# Altium footprint library SG__PCB_Unsorted.PcbLib: 113 footprints (part 2 of 8)
Each footprint in its own frame and in the unit in brackets; x right, y up, seen from the top. Pads: shape width x height; smd on the part's side, far side on the other; paste and mask are expansions set on the pad; w line width, h text height; cw(c..) or ccw(c..) is an arc to the next point about the centre after c.
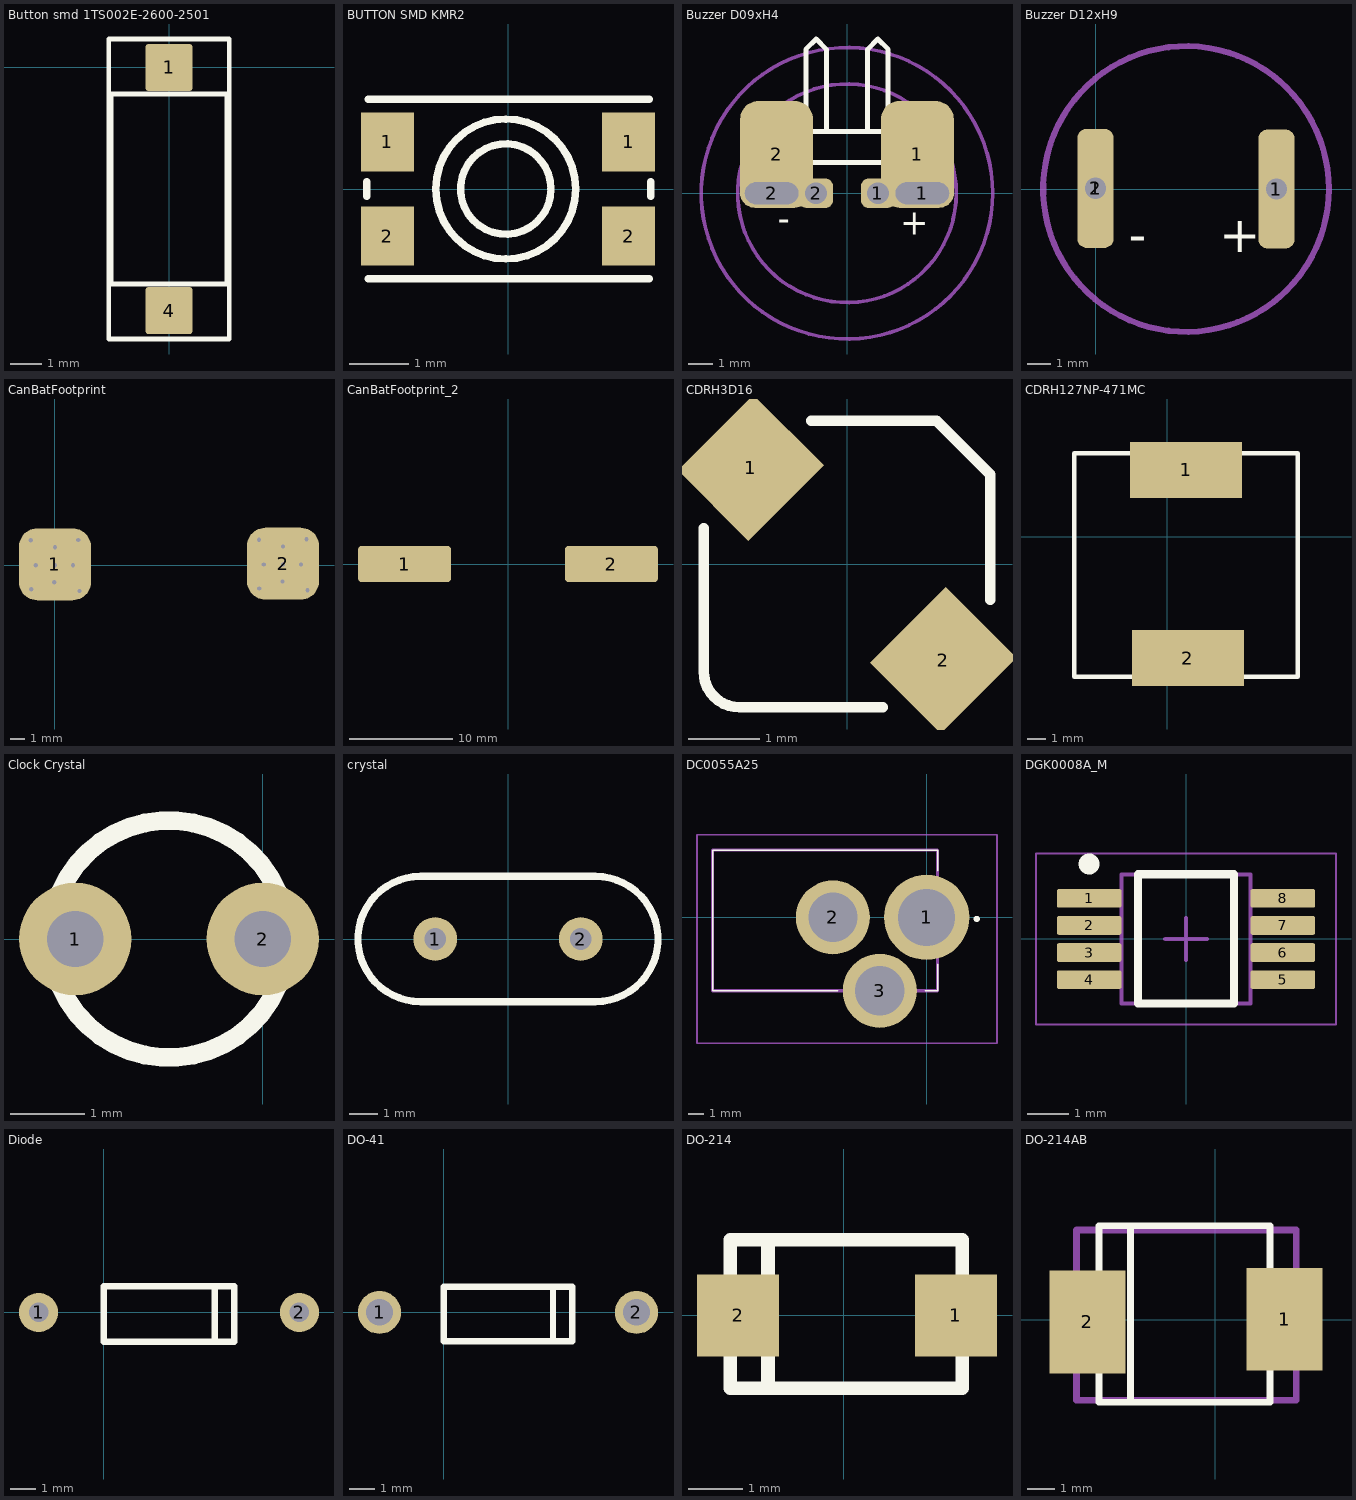
[diagram p1: the footprints below, top view; thin cyan lines are the x and y axes]

## Button smd 1TS002E-2600-2501 [mm] "C319370"
height 2.5
pads (2):
  rrect10% 1.5x1.5 smd: 1(0,0) 4(0,-7.8)
Top Overlay:
  lines w0.152: -1.93,-8.712 1.93,-8.712 1.93,-0.533 1.93,0.914 -0.762,0.914 -1.93,0.914 -1.93,-2.083 -1.93,-8.712 ; -1.85,-6.95 -1.85,-0.85 1.85,-0.85 1.85,-6.95 -1.85,-6.95
3D body: height 2, standoff 0, extent -1.85,-6.95 1.85,-0.85

## BUTTON SMD KMR2 [mm] "C72443"
height 1.9
pads (4):
  rect 0.9x1 smd: 1(-2.05,0.8) 1(2.05,0.8) 2(-2.05,-0.8) 2(2.05,-0.8)
Top Overlay:
  circle w0.127: c-0.038,0 r1.19
  circle w0.127: c-0.038,0 r0.769
  lines w0.127: -2.4,-0.125 -2.4,0.125 ; -2.375,-1.525 2.4,-1.525 ; -2.375,1.525 2.4,1.525 ; 2.425,-0.125 2.425,0.125
3D body: height 2.52, standoff 1.79, extent -0.98,-0.923 0.912,0.974
3D body: height 1.79, standoff 0, extent -2.413,-1.524 2.413,1.524

## Buzzer D09xH4 [mm] "Зуммер"
height 9
pads (6):
  rrect50% 1.4x1.2 hole 0.9: 1(1.27,0) 2(-1.27,0)
  rrect50% 3x4.4 smd: 1(2.9,1.6) 2(-2.9,1.6)
  oval 2.6x1.2 hole 0.9 slot 2.2 at 0 deg: 1(3.1,0) 2(-3.1,0)
Top Overlay:
  lines w0.2: -1.693,2.54 -1.693,5.927 -1.27,6.35 -0.847,5.927 -0.847,2.54 ; 0.847,2.54 0.847,5.927 1.27,6.35 1.693,5.927 1.693,2.54 ; -2.54,1.27 2.54,1.27 2.54,2.54 -2.54,2.54 -2.54,1.27
  text "+" at 2.184,-1.702 h1.02
  text "-" at -2.845,-1.549 h1.02
Courtyard Top:
  circle w0.152: c0,0 r4.5
  circle w0.152: c0,0 r6
3D body: height 4.3, standoff 0, extent -4.5,-4.5 4.5,4.5

## Buzzer D12xH9 [mm] "Зуммер"
height 9
pads (4):
  rrect50% 1.524x5 smd: 1(0,0.025) 1(7.6,0)
  round 1.2 hole 0.9: 1(7.6,0) 2(0,0.025)
Top Overlay:
  text "-" at 1.397,-2.667 h1.52
  text "+" at 5.207,-2.667 h1.52
Courtyard Top:
  circle w0.254: c3.8,0 r6

## CanBatFootprint [mm] "General battery connector"
pads (2):
  rrect50% 5x5 smd: 1(0,0.056) 2(15.85,0.102)
via 0,0 diameter 0.6 hole 0.3
via -1.675,1.725 diameter 0.6 hole 0.3
via 1.625,1.75 diameter 0.6 hole 0.3
via 1.7,-1.797 diameter 0.6 hole 0.3
via -1.65,-1.675 diameter 0.6 hole 0.3
via 1.25,0 diameter 0.6 hole 0.3
via 0,1.243 diameter 0.6 hole 0.3
via -1.341,0 diameter 0.6 hole 0.3
via -0.042,-1.189 diameter 0.6 hole 0.3
via 15.808,-1.143 diameter 0.6 hole 0.3
via 14.509,0.046 diameter 0.6 hole 0.3
via 15.85,1.29 diameter 0.6 hole 0.3
via 17.1,0.046 diameter 0.6 hole 0.3
via 14.2,-1.629 diameter 0.6 hole 0.3
via 17.55,-1.751 diameter 0.6 hole 0.3
via 17.475,1.796 diameter 0.6 hole 0.3
via 14.175,1.771 diameter 0.6 hole 0.3
via 15.85,0.046 diameter 0.6 hole 0.3

## CanBatFootprint_2 [mm] "General battery connector"
pads (2):
  rrect20% 9x3.5 smd: 1(-10,0) 2(10,0)

## CDRH3D16 [mm]
pads (2):
  rect 1.5x1.4 smd rot 45 mask+0.05: 1(-1.344,1.344) 2(1.344,-1.344)
Top Overlay:
  lines w0.15: -2,0.5 -2,-1.5 ccw(c-1.5,-1.5) -1.5,-2 0.5,-2 ; -0.5,2 1.25,2 2,1.25 2,-0.5

## CDRH127NP-471MC [mm]
pads (2):
  rect 6x3 smd: 1(1,3.6) 2(1.1,-6.5)
Top Overlay:
  lines w0.254: -5,-7.5 -5,4.5 7,4.5 7,-7.5 -5,-7.5
3D body: height 8, standoff 0, extent -5,-7.5 7,4.5

## Clock Crystal [mil]
pads (2):
  round 60 hole 30: 1(-100,0) 2(0,0)
Top Overlay:
  circle w10: c-50,0 r63.25
3D body: height 295.28, standoff 19.68, extent -108.59,-58.93 9.06,58.94

## crystal [mil]
pads (2):
  round 60 hole 30: 1(-100,0) 2(100,0)
Top Overlay:
  lines w10: -120,-86.02 cw(c-120,0) -120,86.02 120,86.02 cw(c120,0) 120,-86.02 -120,-86.02
3D body "crystal1.stp": height 165.35, standoff -31.5, extent -212.6,-86.61 212.6,86.62

## DC0055A25 [mm] "DC Power Receptacle Jack 2.5A 2.5mm 6.2mm Through Hole"
height 11
pads (3):
  round 5.46 hole 3.64: 1(0,0)
  round 4.74 hole 3.16: 2(-6,0) 3(-3,-4.7)
Top Overlay:
  lines w0.1: -5.7,-4.7 -13.7,-4.7 -13.7,4.3 0.7,4.3 0.7,3 ; -0.1,-4.7 0.7,-4.7 0.7,-3
  lines w0.2: 3.2,-0.2 cw(c3.2,-0.1) 3.2,0 cw(c3.2,-0.1) 3.2,-0.2
Mechanical 13:
  lines w0.2: -13.7,-4.7 -13.7,4.3 0.7,4.3 0.7,-4.7 -13.7,-4.7
Mechanical 15:
  lines w0.1: -14.7,-8.07 -14.7,5.3 4.5,5.3 4.5,-8.07 -14.7,-8.07
3D body "DC-005-5A-2.5.stp": height 11.1, standoff -5, extent -13.7,-6.177 1.72,4.3

## DGK0008A_M [mm] "TSOP, 8-Leads, Body 3.1x3.1mm, Pitch 0.65mm, IPC Low Density"
height 1.1
pads (8):
  rrect22% 1.55x0.45 smd: 1(-2.325,0.975) 2(-2.325,0.325) 3(-2.325,-0.325) 4(-2.325,-0.975) 5(2.325,-0.975) 6(2.325,-0.325) 7(2.325,0.325) 8(2.325,0.975)
Top Overlay:
  circle w0.25: c-2.325,1.8 r0.125
  lines w0.2: -1.15,-1.55 1.15,-1.55 1.15,1.55 -1.15,1.55 -1.15,-1.55
Mechanical 13:
  lines w0.1: -1.55,-1.55 1.55,-1.55 1.55,1.55 -1.55,1.55 -1.55,-1.55
Mechanical 15:
  lines w0.05: -3.6,-2.05 3.6,-2.05 3.6,2.05 -3.6,2.05 -3.6,-2.05
  lines w0.1: -0.5,0 0.5,0 ; 0,-0.5 0,0.5
3D body "MUY08A_ASM.stp": height 0.94, standoff -0.02, extent -2.451,-1.499 2.451,1.499

## Diode [mil]
pads (2):
  round 60 hole 30: 1(-100,0) 2(300,0)
Top Overlay:
  lines w10: 170,-45 170,40 ; 0,-45 200,-45 200,40 0,40 0,-45
3D body "diode3.stp": height 117.99, standoff 0, extent -119.69,-64.06 319.68,53.58

## DO-41 [mm]
pads (2):
  round 1.7 hole 1.05: 1(-2.54,0) 2(7.62,0)
Top Overlay:
  lines w0.254: 4.318,-1.143 4.318,1.016 ; 0,-1.143 5.08,-1.143 5.08,1.016 0,1.016 0,-1.143
3D body "diode3.stp": height 3, standoff 0, extent -3.04,-1.627 8.12,1.361

## DO-214 [mil]
height 94.49
pads (2):
  rect 60x60 smd: 1(82,0) 2(-77,0)
Top Overlay:
  lines w10: -55.12,-53.15 -55.12,55.12 ; -82.68,-53.15 -82.68,55.12 86.61,55.12 86.61,-53.15 -82.68,-53.15
3D body "DO-214AC SMA.step": height 94.59, standoff 0, extent -101.36,-48.36 103.36,54

## DO-214AB [mm]
height 2.4
pads (2):
  rect 2.8x3.8 smd: 1(2.565,0.025) 2(-4.724,-0.076)
Top Overlay:
  lines w0.254: -3.128,3.454 -3.124,-2.921 ; -4.293,-3.048 -4.293,3.48 2.032,3.48 2.032,-3.048 -4.293,-3.048
Mechanical 1:
  lines w0.254: -5.131,-2.972 2.997,-2.972 2.997,3.327 -5.131,3.327 -5.131,-2.972
3D body "User Library-DO-214AB(SMC).step": height 2.77, standoff 0.13, extent -5.131,-2.972 2.997,3.328